# Altium schematic symbol library IP5306.SchLib: 1 symbol
Pins are listed as number, name and electrical type; pins without a type are passive.

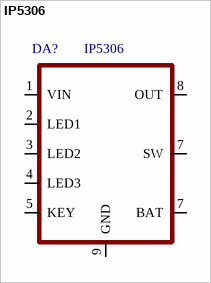
[diagram p0: symbol IP5306]

## IP5306
designator DA?
pins: 1 VIN, 2 LED1, 3 LED2, 4 LED3, 5 KEY, 7 BAT, 7 SW, 8 OUT, 9 GND